# EAGLE library part R5F5631NDDFL#V0 (library R5F5631NDDFL#V0)
MCU,RX631,100MHz,384KB Flash,LQFP48 Source: Datasheet <http://uk.rs-online.com/web/p/products/1260948>
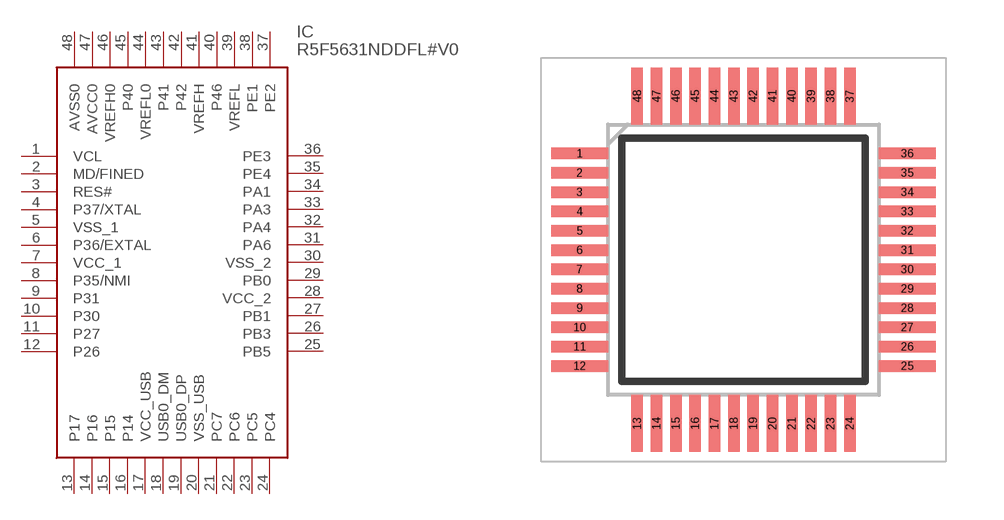
[diagram p0: symbol with the pads of QFP50P900X900X170-48N; footprint QFP50P900X900X170-48N]

Designator prefix IC

## R5F5631NDDFL#V0 (Description: MCU,RX631,100MHz,384KB Flash,LQFP48; Height: 1.7mm; Manufacturer_Name: Renesas Electronics; Manufacturer_Part_Number: R5F5631NDDFL#V0; RS_Part_Number: 1260948; RS_Price-Stock: http://uk.rs-online.com/web/p/products/1260948)  [QFP50P900X900X170-48N]
1  VCL
2  MD/FINED
3  RES#
4  P37/XTAL
5  VSS_1
6  P36/EXTAL
7  VCC_1
8  P35/NMI
9  P31
10  P30
11  P27
12  P26
13  P17
14  P16
15  P15
16  P14
17  VCC_USB
18  USB0_DM
19  USB0_DP
20  VSS_USB
21  PC7
22  PC6
23  PC5
24  PC4
25  PB5
26  PB3
27  PB1
28  VCC_2
29  PB0
30  VSS_2
31  PA6
32  PA4
33  PA3
34  PA1
35  PE4
36  PE3
37  PE2
38  PE1
39  VREFL
40  P46
41  VREFH
42  P42
43  P41
44  VREFL0
45  P40
46  VREFH0
47  AVCC0
48  AVSS0

## Footprint QFP50P900X900X170-48N (pad centres in mm)
R5F5631NDDFL#V0
smd 1.475 x 0.3: 1 -4.238,2.75; 2 -4.238,2.25; 3 -4.238,1.75; 4 -4.238,1.25; 5 -4.238,0.75; 6 -4.238,0.25; 7 -4.238,-0.25; 8 -4.238,-0.75; 9 -4.238,-1.25; 10 -4.238,-1.75; 11 -4.238,-2.25; 12 -4.238,-2.75; 25 4.238,-2.75; 26 4.238,-2.25; 27 4.238,-1.75; 28 4.238,-1.25; 29 4.238,-0.75; 30 4.238,-0.25; 31 4.238,0.25; 32 4.238,0.75; 33 4.238,1.25; 34 4.238,1.75; 35 4.238,2.25; 36 4.238,2.75
smd 0.3 x 1.475: 13 -2.75,-4.238; 14 -2.25,-4.238; 15 -1.75,-4.238; 16 -1.25,-4.238; 17 -0.75,-4.238; 18 -0.25,-4.238; 19 0.25,-4.238; 20 0.75,-4.238; 21 1.25,-4.238; 22 1.75,-4.238; 23 2.25,-4.238; 24 2.75,-4.238; 37 2.75,4.238; 38 2.25,4.238; 39 1.75,4.238; 40 1.25,4.238; 41 0.75,4.238; 42 0.25,4.238; 43 -0.25,4.238; 44 -0.75,4.238; 45 -1.25,4.238; 46 -1.75,4.238; 47 -2.25,4.238; 48 -2.75,4.238